# EAGLE library part DS3231 (library CanCubeSat)
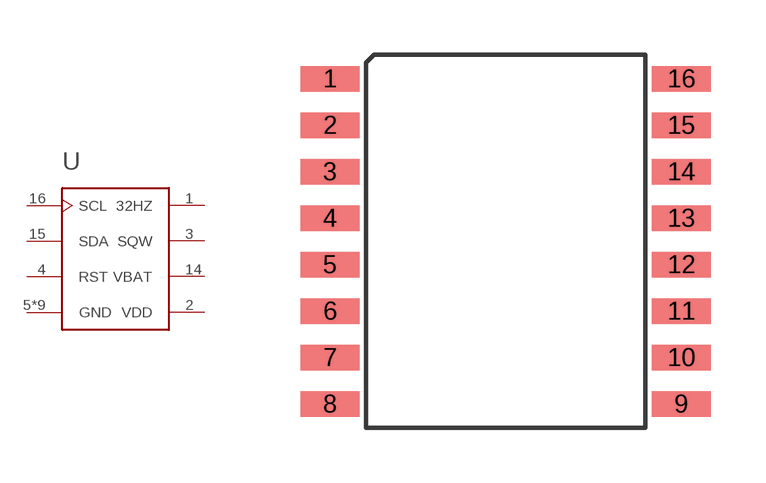
[diagram p34: symbol with the pads of SO16; footprint SO16]

Designator prefix -

## DS3231  [SO16]
1  32HZ
2  VDD
3  SQW
4  RST
5  GND
6  GND
7  GND
8  GND
9  GND
10  GND
11  GND
12  GND
13  GND
14  VBAT
15  SDA
16  SCL

## Footprint SO16 (pad centres in mm)
smd 1.6 x 0.7: 1 -4.8,4.445; 2 -4.8,3.175; 3 -4.8,1.905; 4 -4.8,0.635; 5 -4.8,-0.635; 6 -4.8,-1.905; 7 -4.8,-3.175; 8 -4.8,-4.445; 9 4.8,-4.445; 10 4.8,-3.175; 11 4.8,-1.905; 12 4.8,-0.635; 13 4.8,0.635; 14 4.8,1.905; 15 4.8,3.175; 16 4.8,4.445